# Altium footprint library Inverter Processor PCB.PcbLib: 44 footprints (part 3 of 3)
Each footprint in its own frame and in the unit in brackets; x right, y up, seen from the top. Pads: shape width x height; smd on the part's side, far side on the other; paste and mask are expansions set on the pad; w line width, h text height; cw(c..) or ccw(c..) is an arc to the next point about the centre after c.
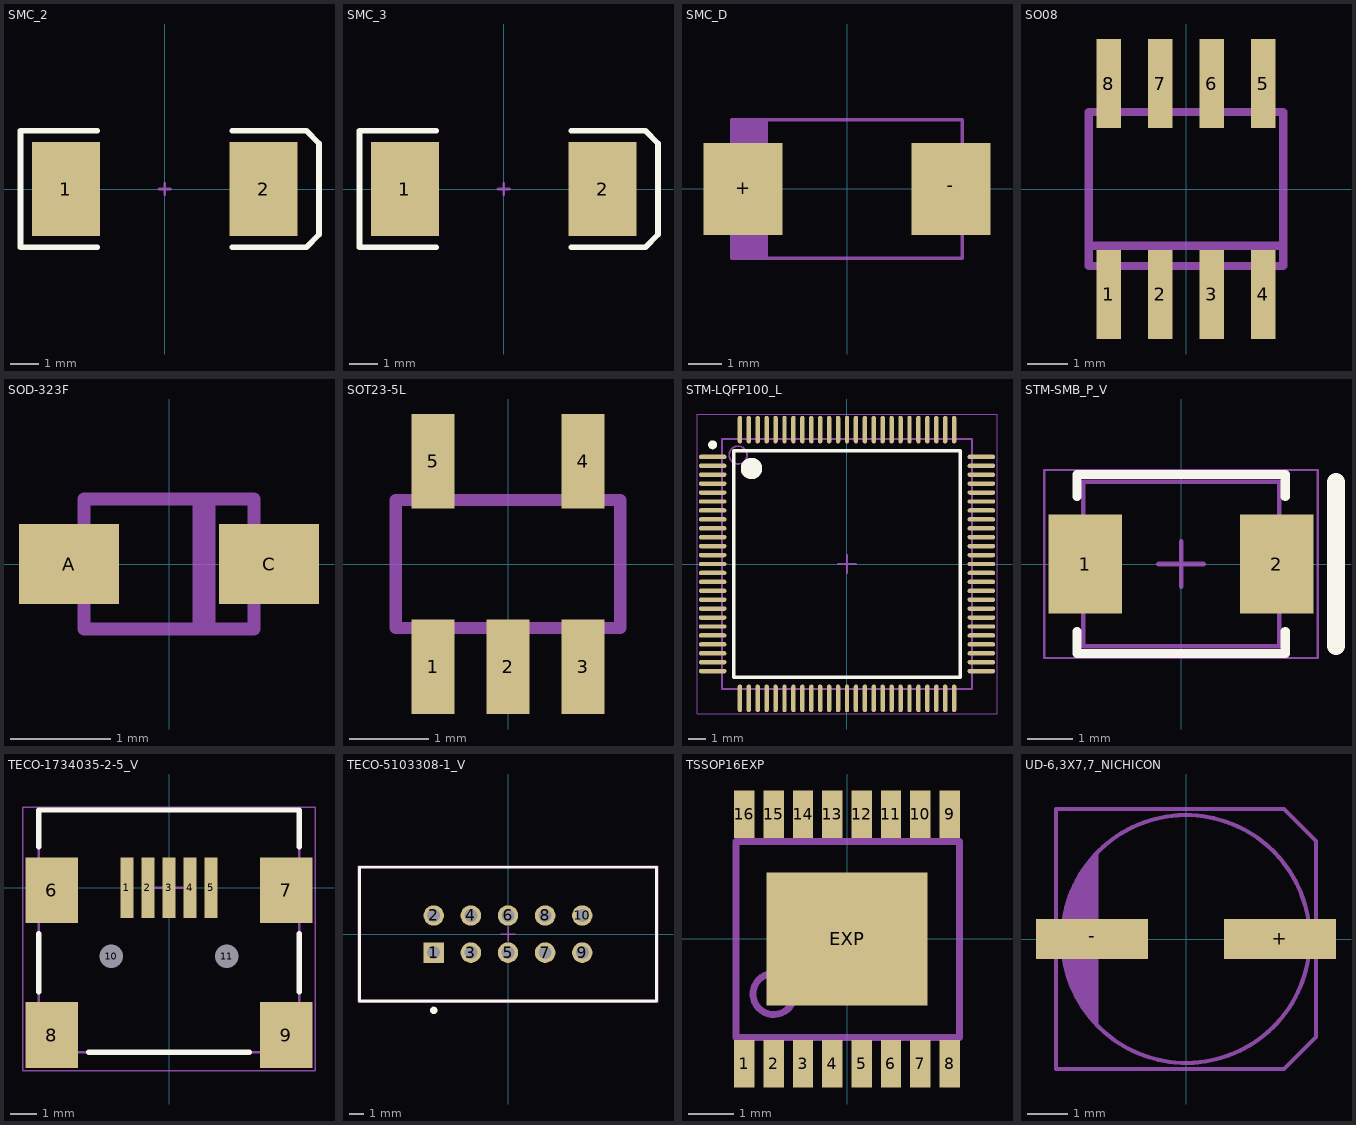
[diagram p2: the footprints below, top view; thin cyan lines are the x and y axes]

## SMC_2 [mm]
pads (2):
  rect 2.4x3.3 smd: 1(-3.475,0) 2(3.475,0)
Top Overlay:
  lines w0.2: -2.375,-2.05 -5.075,-2.05 -5.075,2.05 -2.375,2.05 ; 2.375,-2.05 4.975,-2.05 5.425,-1.6 5.425,1.6 4.975,2.055 ; 2.375,2.05 4.975,2.05
Mechanical 1:
  lines w0.1: -0.2,0 0.2,0 ; 0,-0.2 0,0.2

## SMC_3 [mm]
pads (2):
  rect 2.4x3.3 smd: 1(-3.475,0) 2(3.475,0)
Top Overlay:
  lines w0.2: -2.375,-2.05 -5.075,-2.05 -5.075,2.05 -2.375,2.05 ; 2.375,-2.05 4.975,-2.05 5.425,-1.6 5.425,1.6 4.975,2.055 ; 2.375,2.05 4.975,2.05
Mechanical 1:
  lines w0.1: -0.2,0 0.2,0 ; 0,-0.2 0,0.2

## SMC_D [mm] "SMC_D"
pads (2):
  rect 2.4x2.8 smd: +(-3.15,0) -(3.15,0)
Mechanical 16:
  rectangle: -3.499,-2.1 -2.399,2.1
  region: 3.651,1.2 3.451,1.2 3.451,-1.2 3.651,-1.2
  rectangle: -3.649,-1.2 -3.449,1.2
  lines w0.102: -3.5,-2.1 -3.5,2.1 3.5,2.1 3.5,-2.1 -3.5,-2.1

## SO08 [mm] "SO08"
pads (8):
  rect 0.6x2.2 smd: 1(-1.905,-2.6) 2(-0.635,-2.6) 3(0.635,-2.6) 4(1.905,-2.6) 5(1.905,2.6) 6(0.635,2.6) 7(-0.635,2.6) 8(-1.905,2.6)
Mechanical 16:
  rectangle: -2.15,-3.1 -1.66,-2
  rectangle: -0.88,-3.1 -0.39,-2
  rectangle: 0.39,-3.1 0.88,-2
  rectangle: 1.66,-3.1 2.15,-2
  rectangle: 1.66,2 2.15,3.1
  rectangle: 0.39,2 0.88,3.1
  rectangle: -0.88,2 -0.39,3.1
  rectangle: -2.15,2 -1.66,3.1
  lines w0.203: -2.4,-1.4 -2.4,-1.9 2.4,-1.9 2.4,-1.4 ; -2.4,-1.4 -2.4,1.9 2.4,1.9 2.4,-1.4 ; -2.4,-1.4 2.4,-1.4

## SOD-323F [mm] "SOD-323F"
pads (2):
  rect 1x0.8 smd: A(-1,0) C(1,0)
Mechanical 2:
  lines w0.127: 0.3,0.6 0.3,-0.6 0.4,-0.6 0.4,0.6 ; -0.85,-0.65 0.85,-0.65 0.85,0.65 -0.85,0.65 -0.85,-0.65
Mechanical 16:
  lines w0.127: -0.9,-0.2 -1.2,-0.2 -1.2,0.2 -0.9,0.2 ; 0.9,-0.2 1.2,-0.2 1.2,0.2 0.9,0.2

## SOT23-5L [mm] "SOT23-5L"
pads (5):
  rect 0.55x1.2 smd: 1(-0.95,-1.3) 2(0,-1.3) 3(0.95,-1.3) 4(0.95,1.3) 5(-0.95,1.3)
Mechanical 2:
  lines w0.152: -1.328,-0.81 -1.422,-0.81 -1.422,0.81 -1.328,0.81 ; -0.522,-0.81 -0.428,-0.81 ; -0.522,0.81 0.522,0.81 ; 0.428,-0.81 0.522,-0.81 ; 1.328,-0.81 1.422,-0.81 1.422,0.81 1.328,0.81
Mechanical 16:
  rectangle: -1.2,-1.5 -0.7,-0.85
  rectangle: -0.25,-1.5 0.25,-0.85
  rectangle: 0.7,-1.5 1.2,-0.85
  rectangle: 0.7,0.85 1.2,1.5
  rectangle: -1.2,0.85 -0.7,1.5
  lines w0.152: -1.422,-0.81 1.422,-0.81 ; -1.422,0.81 1.422,0.81

## STM-LQFP100_L [mm] "Thin QFP, 100-Leads, Body 14x14mm, Pitch 0.5mm, IPC High Density"
height 1.6
pads (100):
  oval 1.55x0.25 smd: 1(-7.525,6) 2(-7.525,5.5) 3(-7.525,5) 4(-7.525,4.5) 5(-7.525,4) 6(-7.525,3.5) 7(-7.525,3) 8(-7.525,2.5) 9(-7.525,2) 10(-7.525,1.5) 11(-7.525,1) 12(-7.525,0.5) 13(-7.525,0) 14(-7.525,-0.5) 15(-7.525,-1) 16(-7.525,-1.5) 17(-7.525,-2) 18(-7.525,-2.5) 19(-7.525,-3) 20(-7.525,-3.5) 21(-7.525,-4) 22(-7.525,-4.5) 23(-7.525,-5) 24(-7.525,-5.5) 25(-7.525,-6) 51(7.525,-6) 52(7.525,-5.5) 53(7.525,-5) 54(7.525,-4.5) 55(7.525,-4) 56(7.525,-3.5) 57(7.525,-3) 58(7.525,-2.5) 59(7.525,-2) 60(7.525,-1.5) 61(7.525,-1) 62(7.525,-0.5) 63(7.525,0) 64(7.525,0.5) 65(7.525,1) 66(7.525,1.5) 67(7.525,2) 68(7.525,2.5) 69(7.525,3) 70(7.525,3.5) 71(7.525,4) 72(7.525,4.5) 73(7.525,5) 74(7.525,5.5) 75(7.525,6)
  oval 0.25x1.55 smd: 26(-6,-7.525) 27(-5.5,-7.525) 28(-5,-7.525) 29(-4.5,-7.525) 30(-4,-7.525) 31(-3.5,-7.525) 32(-3,-7.525) 33(-2.5,-7.525) 34(-2,-7.525) 35(-1.5,-7.525) 36(-1,-7.525) 37(-0.5,-7.525) 38(0,-7.525) 39(0.5,-7.525) 40(1,-7.525) 41(1.5,-7.525) 42(2,-7.525) 43(2.5,-7.525) 44(3,-7.525) 45(3.5,-7.525) 46(4,-7.525) 47(4.5,-7.525) 48(5,-7.525) 49(5.5,-7.525) 50(6,-7.525) 76(6,7.525) 77(5.5,7.525) 78(5,7.525) 79(4.5,7.525) 80(4,7.525) 81(3.5,7.525) 82(3,7.525) 83(2.5,7.525) 84(2,7.525) 85(1.5,7.525) 86(1,7.525) 87(0.5,7.525) 88(0,7.525) 89(-0.5,7.525) 90(-1,7.525) 91(-1.5,7.525) 92(-2,7.525) 93(-2.5,7.525) 94(-3,7.525) 95(-3.5,7.525) 96(-4,7.525) 97(-4.5,7.525) 98(-5,7.525) 99(-5.5,7.525) 100(-6,7.525)
Top Overlay:
  circle w0.6: c-5.35,5.35 r0.3
  circle w0.25: c-7.525,6.675 r0.125
  lines w0.2: -6.35,-6.35 6.35,-6.35 6.35,6.35 -6.35,6.35 -6.35,-6.35
Mechanical 13:
  circle w0.1: c-6.1,6.1 r0.5
  lines w0.1: -7,-7 7,-7 7,7 -7,7 -7,-7
Mechanical 15:
  lines w0.05: -8.4,-8.4 8.4,-8.4 8.4,8.4 -8.4,8.4 -8.4,-8.4
  lines w0.1: -0.5,0 0.5,0 ; 0,-0.5 0,0.5
3D body: height 1.6, standoff 0.05, extent -7,-7 7,7

## STM-SMB_P_V [mm] "SMB, 2-Leads, Body 4.325x3.625mm"
height 2.585
pads (2):
  rect 1.62x2.18 smd: 1(-2.11,0) 2(2.11,0)
Top Overlay:
  lines w0.2: -2.3,-1.49 -2.3,-1.975 2.3,-1.975 2.3,-1.49 ; -2.3,1.49 -2.3,1.975 2.3,1.975 2.3,1.49
  lines w0.4: 3.42,-1.813 3.42,1.813
Mechanical 13:
  lines w0.1: -2.163,-1.813 -2.163,1.813 2.163,1.813 2.163,-1.813 -2.163,-1.813
Mechanical 15:
  lines w0.05: -3.02,-2.075 3.02,-2.075 3.02,2.075 -3.02,2.075 -3.02,-2.075
  lines w0.1: -0.5,0 0.5,0 ; 0,-0.5 0,0.5
3D body: height 2.59, standoff 0.05, extent -2.163,-1.813 2.163,1.813

## TECO-1734035-2-5_V [mm] "SMD, 5-Leads, Body 9.9x9.2mm, Pitch 0.8mm"
height 4.09
pads (11):
  rect 0.5x2.3 smd: 1(-1.6,0) 2(-0.8,0) 3(0,0) 4(0.8,0) 5(1.6,0)
  rect 2x2.5 smd: 6(-4.45,-0.1) 7(4.45,-0.1) 8(-4.45,-5.6) 9(4.45,-5.6)
  round 0.6 hole 0.9 unplated: 10(-2.2,-2.6) 11(2.2,-2.6)
Top Overlay:
  lines w0.2: -4.95,-3.95 -4.95,-1.75 ; -4.95,1.55 -4.95,2.95 4.95,2.95 4.95,1.55 ; -3.05,-6.25 3.05,-6.25 ; 4.95,-3.95 4.95,-1.75
Mechanical 13:
  lines w0.1: -4.95,-6.25 -4.95,2.95 4.95,2.95 4.95,-6.25 -4.95,-6.25
Mechanical 15:
  lines w0.05: -5.55,-6.95 -5.55,3.05 5.55,3.05 5.55,-6.95 -5.55,-6.95
  lines w0.1: -0.5,0 0.5,0 ; 0,-0.5 0,0.5
3D body: height 4.09, standoff 0, extent -4.95,-6.25 4.95,2.95

## TECO-5103308-1_V [mm] "Connector, 10-Leads, Body 20.32x9.14mm, Pitch 2.54mm"
height 9.86
pads (10):
  rect 1.4x1.4 hole 0.89: 1(-5.08,-1.27)
  round 1.4 hole 0.89: 2(-5.08,1.27) 3(-2.54,-1.27) 4(-2.54,1.27) 5(0,-1.27) 6(0,1.27) 7(2.54,-1.27) 8(2.54,1.27) 9(5.08,-1.27) 10(5.08,1.27)
Top Overlay:
  circle w0.25: c-5.08,-5.22 r0.125
  lines w0.2: -10.16,-4.57 -10.16,4.57 10.16,4.57 10.16,-4.57 -10.16,-4.57
Mechanical 13:
  lines w0.1: -10.16,-4.57 -10.16,4.57 10.16,4.57 10.16,-4.57 -10.16,-4.57
Mechanical 15:
  lines w0.05: -10.26,-4.67 -10.26,4.67 10.26,4.67 10.26,-4.67 -10.26,-4.67
  lines w0.1: -0.5,0 0.5,0 ; 0,-0.5 0,0.5
3D body: height 9.86, standoff 0, extent -10.16,-4.57 10.16,4.57

## TSSOP16EXP [mm] "TSSOP16EXP"
pads (17):
  rect 0.45x1.05 smd mask-0.525: 1(-2.275,-2.768) 2(-1.625,-2.768) 3(-0.975,-2.768) 4(-0.325,-2.768) 5(0.325,-2.768) 6(0.975,-2.768) 7(1.625,-2.768) 8(2.275,-2.768) 9(2.275,2.768) 10(1.625,2.768) 11(0.975,2.768) 12(0.325,2.768) 13(-0.325,2.768) 14(-0.975,2.768) 15(-1.625,2.768) 16(-2.275,2.768)
  rect 3.58x2.94 smd: EXP(0,0)
Top Solder:
  region: -2.025,3.324 -2.525,3.324 -2.525,2.224 -2.025,2.224
  region: -1.375,3.324 -1.875,3.324 -1.875,2.224 -1.375,2.224
  region: -0.725,3.324 -1.225,3.324 -1.225,2.224 -0.725,2.224
  region: -0.075,3.324 -0.575,3.324 -0.575,2.224 -0.075,2.224
  region: 0.575,3.324 0.075,3.324 0.075,2.224 0.575,2.224
  region: 1.225,3.324 0.725,3.324 0.725,2.224 1.225,2.224
  region: 1.875,3.324 1.375,3.324 1.375,2.224 1.875,2.224
  region: 2.525,3.324 2.025,3.324 2.025,2.224 2.525,2.224
  rectangle: 2.025,-3.326 2.525,-2.226
  rectangle: 1.375,-3.326 1.875,-2.226
  rectangle: 0.725,-3.326 1.225,-2.226
  rectangle: 0.075,-3.326 0.575,-2.226
  rectangle: -0.575,-3.326 -0.075,-2.226
  rectangle: -1.225,-3.326 -0.725,-2.226
  rectangle: -1.875,-3.326 -1.375,-2.226
  rectangle: -2.525,-3.326 -2.025,-2.226
Mechanical 2:
  circle w0.152: c-1.626,-1.219 r0.457
  lines w0.152: -2.465,-2.183 -2.465,2.158 ; 2.49,-2.183 2.49,2.158
Mechanical 16:
  rectangle: -2.425,2.199 -2.125,3.199
  rectangle: -1.775,2.199 -1.475,3.199
  rectangle: -1.125,2.199 -0.825,3.199
  rectangle: -0.475,2.199 -0.175,3.199
  rectangle: 0.175,2.199 0.475,3.199
  rectangle: 0.825,2.199 1.125,3.199
  rectangle: 1.475,2.199 1.775,3.199
  rectangle: 2.125,2.199 2.425,3.199
  region: 2.425,-2.201 2.125,-2.201 2.125,-3.201 2.425,-3.201
  region: 1.775,-2.201 1.475,-2.201 1.475,-3.201 1.775,-3.201
  region: 1.125,-2.201 0.825,-2.201 0.825,-3.201 1.125,-3.201
  region: 0.475,-2.201 0.175,-2.201 0.175,-3.201 0.475,-3.201
  region: -0.175,-2.201 -0.475,-2.201 -0.475,-3.201 -0.175,-3.201
  region: -0.825,-2.201 -1.125,-2.201 -1.125,-3.201 -0.825,-3.201
  region: -1.475,-2.201 -1.775,-2.201 -1.775,-3.201 -1.475,-3.201
  region: -2.125,-2.201 -2.425,-2.201 -2.425,-3.201 -2.125,-3.201
  lines w0.152: -2.465,-2.183 2.49,-2.183 ; -2.465,2.158 2.49,2.158

## UD-6,3X7,7_NICHICON [mm] "UD-6,3X7,7_NICHICON"
pads (2):
  rect 2.8x1 smd: +(2.35,0) -(-2.35,0)
Mechanical 2:
  lines w0.102: -3.25,-0.7 -3.25,-3.25 2.45,-3.25 3.25,-2.45 ; -3.25,0.8 -3.25,3.25 2.45,3.25 3.25,2.45 ; -3,0.775 cw(c-0.002,0.005) 2.975,0.85 ; -2.975,-0.85 ccw(c0.002,-0.005) 3,-0.775
Mechanical 16:
  circle w0.102: c0,0 r3.1
  region: -2.2,2.15 -2.339,2.008 -2.577,1.69 -2.773,1.345 -2.923,0.977 -3.024,0.593 -3.075,0.199 -3.075,-0.199 -3.024,-0.593 -2.923,-0.977 -2.773,-1.345 -2.577,-1.69 -2.339,-2.008 -2.2,-2.15
  lines w0.102: -3.25,-3.25 2.45,-3.25 3.25,-2.45 3.25,2.45 2.45,3.25 -3.25,3.25 -3.25,-3.25